# Altium footprint library PCB1.PcbLib: 74 footprints (part 3 of 5)
Each footprint in its own frame and in the unit in brackets; x right, y up, seen from the top. Pads: shape width x height; smd on the part's side, far side on the other; paste and mask are expansions set on the pad; w line width, h text height; cw(c..) or ccw(c..) is an arc to the next point about the centre after c.
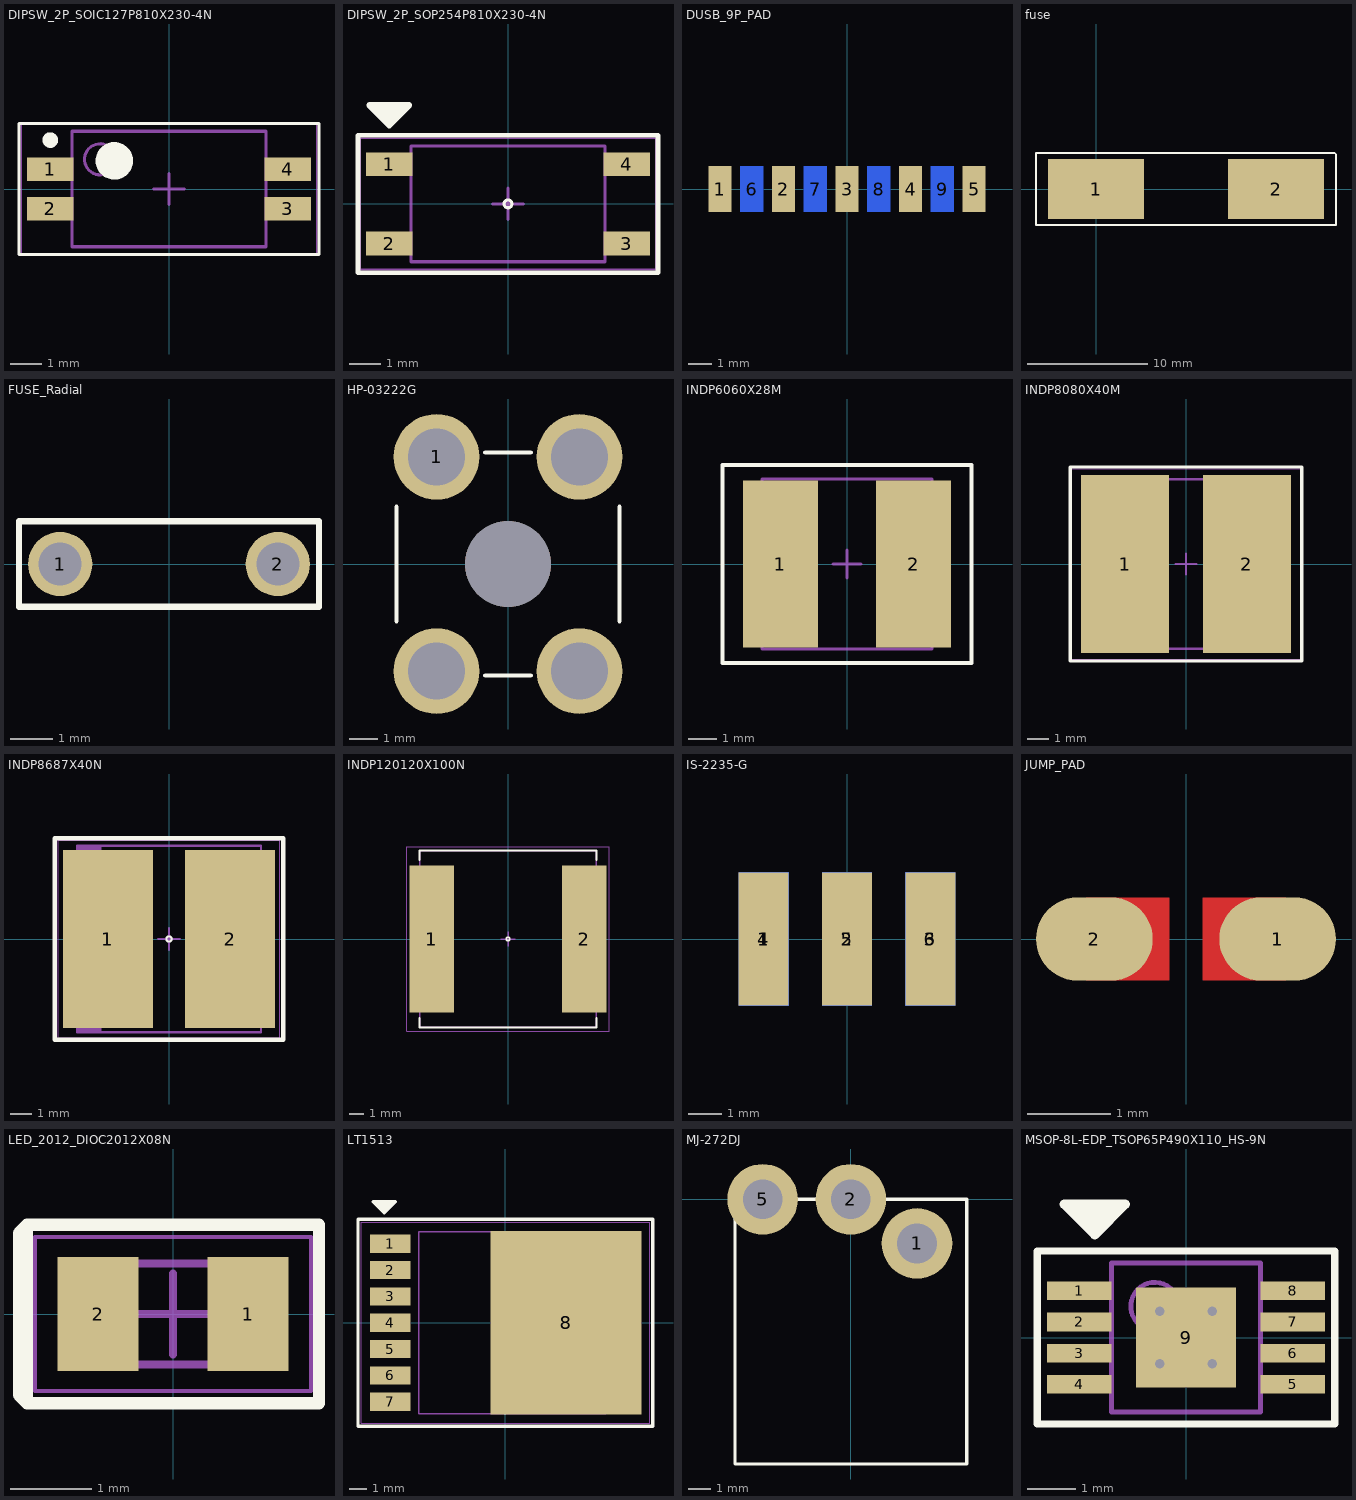
[diagram p2: the footprints below, top view; thin cyan lines are the x and y axes]

## DIPSW_2P_SOIC127P810X230-4N [mm] "SOIC, 4-Leads, Body 3.64x6.15mm, Pitch 1.27mm, IPC Medium Density"
height 2.3
pads (4):
  rect 1.5x0.76 smd: 1(-3.8,0.635) 2(-3.8,-0.635) 3(3.8,-0.635) 4(3.8,0.635)
Top Overlay:
  circle w0.25: c-3.8,1.565 r0.125
  circle w0.6: c-1.75,0.9 r0.3
  lines w0.1: -4.8,-2.1 -4.8,2.1 4.8,2.1 4.8,-2.1 -4.8,-2.1
Mechanical 13:
  circle w0.1: c-2.2,0.95 r0.5
  lines w0.1: -3.1,-1.85 -3.1,1.85 3.1,1.85 3.1,-1.85 -3.1,-1.85
Mechanical 15:
  lines w0.05: -4.725,-2.1 -4.725,2.1 4.725,2.1 4.725,-2.1 -4.725,-2.1
  lines w0.1: -0.5,0 0.5,0 ; 0,-0.5 0,0.5
3D body "DIPSW_2P_SOIC127P810X230-4N.step": height 2.3, standoff 0, extent -4.055,-1.85 4.055,1.85

## DIPSW_2P_SOP254P810X230-4N [mm] "SOP, 4-Leads, Body 3.67x6.20mm, Pitch 2.54mm, IPC Medium Density"
height 2.3
pads (4):
  rect 1.5x0.76 smd: 1(-3.8,1.27) 2(-3.8,-1.27) 3(3.8,-1.27) 4(3.8,1.27)
Top Overlay:
  circle w0.1: c0,0 r0.125
  lines w0.15: -4.8,-2.2 -4.8,2.2 4.8,2.2 4.8,-2.2 -4.8,-2.2
  lines w0.2: -3.546,3.027 -3.673,3.027 -3.673,2.9 ; -3.8,2.519 -3.8,3.154 ; -3.8,2.519 -4.435,3.154 -3.165,3.154 -3.8,2.519 ; -3.8,2.773 -3.673,2.9 ; -3.8,2.773 -3.991,2.963 -3.8,3.154 ; -3.8,2.773 -4.181,3.154 -3.8,3.154 ; -3.8,2.773 -3.419,3.154 -3.546,3.154 -3.8,3.154 ; -3.673,2.9 -3.737,2.9 -3.673,2.9
Mechanical 13:
  lines w0.1: -3.1,-1.85 -3.1,1.85 3.1,1.85 3.1,-1.85 -3.1,-1.85
Mechanical 15:
  lines w0.05: -4.725,-2.1 -4.725,2.1 4.725,2.1 4.725,-2.1 -4.725,-2.1
  lines w0.1: -0.5,0 0.5,0 ; 0,-0.5 0,0.5
3D body "DIPSW_2P_SOP254P810X230-4N.step": height 2.3, standoff 0, extent -4.155,-1.85 3.955,1.85

## DUSB_9P_PAD [mm] "DSUB 9 PIN, on PCB pad"
pads (9):
  rect 1x2 smd paste-0.05 mask+0.102: 1(-5.54,0) 2(-2.77,0) 3(0,0) 4(2.77,0) 5(5.54,0)
  rect 1x2 smd far side paste-0.05 mask+0.102: 6(-4.155,0) 7(-1.385,0) 8(1.385,0) 9(4.155,0)

## fuse [mm]
pads (2):
  rect 8x5 smd: 1(0,0) 2(15,0)
Top Overlay:
  lines w0.15: -5,-3 -5,3 19.9,3 20,2.9 20,-3 -5,-3

## FUSE_Radial [mm] "5.08 pitch, 1.0 TH"
pads (2):
  round 1.5 hole 1 paste-0.05 mask+0.1: 1(-2.54,0) 2(2.54,0)
Top Overlay:
  lines w0.15: -3.5,-1 3.5,-1 3.5,1 -3.5,1 -3.5,-1

## HP-03222G [mm]
pads (5):
  round 3 hole 2 paste-0.05 mask+0.1: 1(-2.5,3.75) ""(-2.5,-3.75) ""(2.5,-3.75) ""(2.5,3.75)
  round 3 hole 3 paste+0 mask+0: ""(0,0)
Top Overlay:
  lines w0.15: -3.9,-2 -3.9,2 ; -0.8,-3.9 0.8,-3.9 ; -0.8,3.9 0.8,3.9 ; 3.9,-2 3.9,2

## INDP6060X28M [mm] "Precision Wire Wound Inductor, 2-Leads, Body 6.00x6.00mm, IPC Low Density"
height 2.8
pads (2):
  rect 2.65x5.9 smd: 1(-2.35,0) 2(2.35,0)
Top Overlay:
  lines w0.15: -4.4,-3.5 4.4,-3.5 4.4,3.5 -4.4,3.5 -4.4,-3.5
Mechanical 13:
  lines w0.1: -3,-3 -3,3 3,3 3,-3 -3,-3
Mechanical 15:
  lines w0.05: -4.425,-3.5 -4.425,3.5 4.425,3.5 4.425,-3.5 -4.425,-3.5
  lines w0.1: -0.5,0 0.5,0 ; 0,-0.5 0,0.5
3D body "INDP6060X28M.step": height 2.9, standoff 0, extent -3.1,-3 3.1,3

## INDP8080X40M [mm] "Precision Wire Wound Inductor, 2-Leads, Body 8.00x8.00mm, IPC Low Density"
height 4
pads (2):
  rect 4.15x8.4 smd: 1(-2.875,0) 2(2.875,0)
Top Overlay:
  lines w0.15: -5.461,-4.572 -5.461,4.572 5.461,4.572 5.461,-4.572 -5.461,-4.572
Mechanical 13:
  lines w0.1: -4,-4 4,-4 4,4 -4,4 -4,-4
Mechanical 15:
  lines w0.05: -5.425,-4.5 5.425,-4.5 5.425,4.5 -5.425,4.5 -5.425,-4.5
  lines w0.1: -0.5,0 0.5,0 ; 0,-0.5 0,0.5
3D body "INDP8080X40M.step": height 4.1, standoff 0, extent -4.1,-4.1 4.1,4.1

## INDP8687X40N [mm] "Precision Wire Wound Inductor, 2-Leads, Body 8.60x8.70mm, IPC Medium Density"
height 4
pads (2):
  rect 4.2x8.3 smd: 1(-2.85,0) 2(2.85,0)
Top Overlay:
  circle w0.1: c0,0 r0.125
  lines w0.2: -5.334,-4.699 -5.334,-4.036 -5.334,4.699 5.334,4.699 5.334,-4.699 -5.334,-4.699
Mechanical 13:
  rectangle: -4.3,-4.35 -3.143,4.35
  lines w0.1: -4.3,-4.35 4.3,-4.35 4.3,4.35 -4.3,4.35 -4.3,-4.35
Mechanical 15:
  lines w0.05: -5.175,-4.6 5.175,-4.6 5.175,4.6 -5.175,4.6 -5.175,-4.6
  lines w0.1: -0.5,0 0.5,0 ; 0,-0.5 0,0.5
3D body "INDP8687X40N.step": height 4.1, standoff 0, extent -4.4,-4.35 4.4,4.35

## INDP120120X100N [mm] "Precision Wire Wound Inductor, 2-Leads, Body 12.00x12.00mm, IPC Medium Density"
height 10
pads (2):
  rect 3x10 smd: 1(-5.175,0) 2(5.175,0)
Top Overlay:
  circle w0.1: c0,0 r0.125
  lines w0.15: -6,-5.375 -6,-6 6,-6 6,-5.375 ; -6,5.375 -6,6 6,6 6,5.375
Mechanical 13:
  lines w0.1: -6,-6 6,-6 6,6 -6,6 -6,-6
Mechanical 15:
  lines w0.05: -6.875,-6.25 6.875,-6.25 6.875,6.25 -6.875,6.25 -6.875,-6.25
  lines w0.1: -0.5,0 0.5,0 ; 0,-0.5 0,0.5
3D body "INDP120120X100N.step": height 10.1, standoff 0, extent -6.1,-6 6.1,6

## IS-2235-G [mm]
pads (6):
  rect 1.5x4 smd far side paste-0.05 mask+0.1: 1(-2.5,0) 2(0,0) 3(2.5,0)
  rect 1.5x4 smd paste-0.05 mask+0.1: 4(-2.5,0) 5(0,0) 6(2.5,0)

## JUMP_PAD [mm]
pads (2):
  oval 1.4x1 smd: 1(1.1,0) 2(-1.1,0)
Top Layer:
  rectangle: 0.2,-0.5 1.2,0.5
  rectangle: -1.2,-0.5 -0.2,0.5

## LED_2012_DIOC2012X08N [mm] "Chip Diode, 2-Leads, Body 2.00x1.25mm, IPC Medium Density"
height 0.8
pads (2):
  rect 1x1.4 smd: 1(0.925,0) 2(-0.925,0)
Top Overlay:
  lines w0.15: -1.8,-1.1 1.8,-1.1 1.8,1.1 -1.8,1.1 ; -1.8,-1.1 -1.8,1.1 ; -1.8,-1.1 -1.9,-1 -1.9,1 -1.8,1.1
Mechanical 13:
  lines w0.1: -1,-0.625 -1,0.625 1,0.625 1,-0.625 -1,-0.625
Mechanical 15:
  lines w0.05: -1.7,-0.95 -1.7,0.95 1.7,0.95 1.7,-0.95 -1.7,-0.95
  lines w0.1: -0.5,0 0.5,0 ; 0,-0.5 0,0.5
3D body "LED_2012_DIOC2012X08N.step": height 0.8, standoff 0, extent -1,-0.625 1,0.625

## LT1513 [mm]
pads (8):
  rect 2.35x1.05 smd: 1(-6.65,4.56) 2(-6.65,3.04) 3(-6.65,1.52) 4(-6.65,0) 5(-6.65,-1.52) 6(-6.65,-3.04) 7(-6.65,-4.56)
  rect 8.7x10.6 smd: 8(3.5,0)
Top Overlay:
  lines w0.2: -6.731,6.858 -6.794,6.794 -7.175,6.794 -6.985,6.985 ; -6.985,6.35 -6.35,6.985 -7.62,6.985 -6.985,6.35 ; -6.985,6.35 -6.985,6.985 ; -6.985,6.985 -6.604,6.985 -6.985,6.604 -7.366,6.985 -6.985,6.985 ; -8.509,-5.969 8.509,-5.969 8.509,5.969 -1.25,5.969 -8.509,5.969 -8.509,-5.969
Mechanical 13:
  lines w0.1: -5,-5.25 5.8,-5.25 5.8,5.25 -5,5.25 -5,-5.25
Mechanical 15:
  lines w0.05: -8.325,-5.8 8.325,-5.8 8.325,5.8 -8.325,5.8 -8.325,-5.8
  lines w0.1: -0.5,0 0.5,0 ; 0,-0.5 0,0.5
3D body "DPAK152P1440X450-8M.step": height 4.5, standoff 0, extent -6.8,-5.25 7.6,5.25

## MJ-272DJ [mm]
pads (3):
  round 3.2 hole 1.8 paste-0.05 mask+0.1: 1(3,-2) 2(0,0) 5(-4,0)
Top Overlay:
  lines w0.15: -5.25,-12 -5.25,0 0,0 5.25,0 5.25,-12 -5.25,-12

## MSOP-8L-EDP_TSOP65P490X110_HS-9N [mm] "TSOP, 8-Leads, Body 3.00x3.00mm, Pitch 0.65mm, Thermal Pad 2.08x2.08mm, IPC Medium Density"
height 1.1
pads (9):
  rect 1.35x0.39 smd: 1(-2.225,0.975) 2(-2.225,0.325) 3(-2.225,-0.325) 4(-2.225,-0.975) 5(2.225,-0.975) 6(2.225,-0.325) 7(2.225,0.325) 8(2.225,0.975)
  rect 2.08x2.08 smd: 9(0,0)
via 0.55,-0.55 diameter 0.305 hole 0.2
via -0.55,-0.55 diameter 0.305 hole 0.2
via 0.55,0.55 diameter 0.305 hole 0.2
via -0.55,0.55 diameter 0.305 hole 0.2
Top Overlay:
  lines w0.15: -3.1,-1.8 -3.1,1.8 3.1,1.8 3.1,-1.8 -3.1,-1.8
  lines w0.2: -1.646,2.654 -1.773,2.654 -1.773,2.527 ; -1.9,2.146 -1.265,2.781 -2.535,2.781 -1.9,2.146 ; -1.9,2.146 -1.9,2.781 ; -1.9,2.4 -1.519,2.781 -1.646,2.781 -1.9,2.781 ; -1.9,2.4 -2.281,2.781 -1.9,2.781 ; -1.9,2.4 -2.09,2.591 -1.9,2.781 ; -1.9,2.4 -1.773,2.527 ; -1.773,2.527 -1.836,2.527 -1.773,2.527
Mechanical 13:
  circle w0.1: c-0.65,0.65 r0.5
  lines w0.1: -1.55,-1.55 1.55,-1.55 1.55,1.55 -1.55,1.55 -1.55,-1.55
Mechanical 15:
  lines w0.05: -3.125,-1.8 3.125,-1.8 3.125,1.8 -3.125,1.8 -3.125,-1.8
  lines w0.1: -0.5,0 0.5,0 ; 0,-0.5 0,0.5
3D body "MSOP-8L-EDP_TSOP65P490X110_HS-9N.step": height 1.1, standoff 0, extent -2.45,-1.55 2.45,1.55